# Altium integrated library LT Operational Amplifier.IntLib: 1835 symbols (part 37 of 39)
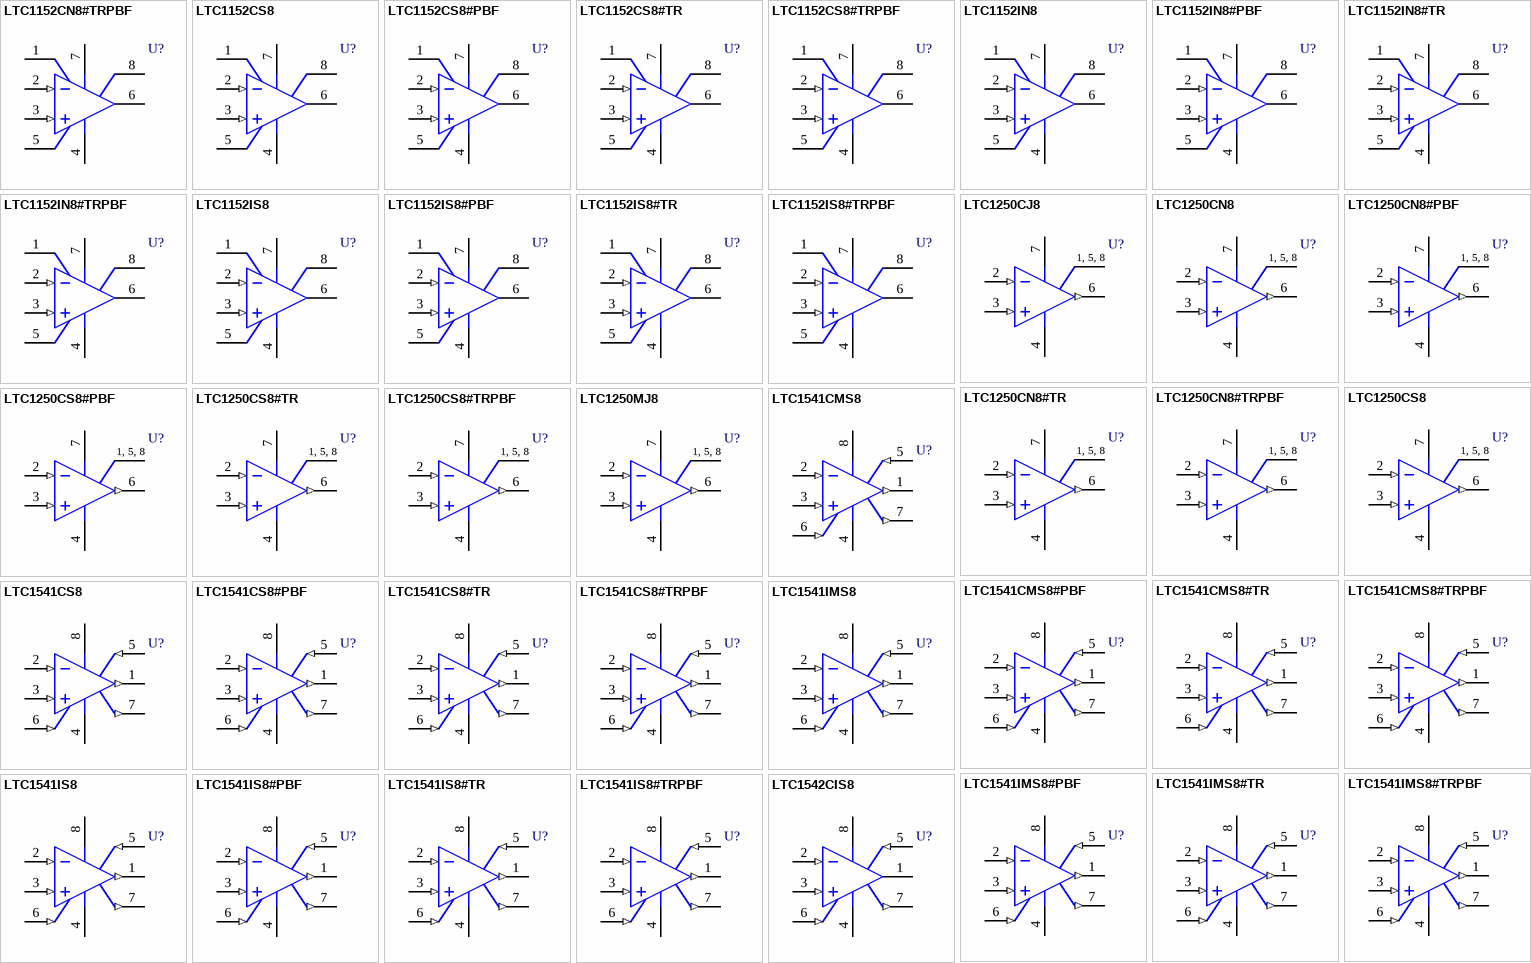
[diagram p123: symbols LTC1152CN8#TRPBF to LTC1542CIS8]

## LTC1152CS8
designator U?
Rail-to-Rail Input Rail-to-Rail Output Zero-Drift Operational Amplifier; Note: 1801; Published: 8-Jun-2000; LatestRevisionDate: 13-Apr-2006; LatestRevisionNote: IPC-7351 Footprint Added.; DatasheetVersion: 1996; PackageReference: S8; Publisher: Altium Limited; PackageDescription: 8-Pin Small Outline Integrated Circuit 1.27 mm Pitch; Code_JEDEC: MS-012-AA; Code_IPC: SOIC127P600-8; ComponentLink1Description: Manufacturer Link; ComponentLink1URL: http://www.linear.com/; ComponentLink2Description: Datasheet; ComponentLink2URL: http://www.linear.com/pc/downloadDocument.do?navId=H0,C1,C1154,C1009,C1027,P1131,D2857
footprint S8_N (SOIC, 8-Leads, Body 4.9x3.9mm, Pitch 1.27mm, IPC Medium Density)
footprint S8_L (SOIC, 8-Leads, Body 4.9x3.9mm, Pitch 1.27mm, IPC High Density)
footprint S8_M (SOIC, 8-Leads, Body 4.9x3.9mm, Pitch 1.27mm, IPC Low Density)
3D model S8 (8-Pin Small Outline Integrated Circuit 1.27 mm Pitch)
simulation model LTC1152 (SUBCKT)
pins: 1 SD, 2 IN- (in), 3 IN+ (in), 4 V- (power), 5 CMPEN, 6 OUT (hiz), 7 V+ (power), 8 CP

## LTC1152CS8#PBF
designator U?
Rail-to-Rail Input Rail-to-Rail Output Zero-Drift Operational Amplifier; Note: 1803; Published: 8-Jun-2000; LatestRevisionDate: 13-Apr-2006; LatestRevisionNote: IPC-7351 Footprint Added.; DatasheetVersion: 1996; PackageReference: S8; Publisher: Altium Limited; PackageDescription: 8-Pin Small Outline Integrated Circuit 1.27 mm Pitch; Code_JEDEC: MS-012-AA; Code_IPC: SOIC127P600-8; ComponentLink1Description: Manufacturer Link; ComponentLink1URL: http://www.linear.com/; ComponentLink2Description: Datasheet; ComponentLink2URL: http://www.linear.com/pc/downloadDocument.do?navId=H0,C1,C1154,C1009,C1027,P1131,D2857
footprint S8_N (SOIC, 8-Leads, Body 4.9x3.9mm, Pitch 1.27mm, IPC Medium Density)
footprint S8_L (SOIC, 8-Leads, Body 4.9x3.9mm, Pitch 1.27mm, IPC High Density)
footprint S8_M (SOIC, 8-Leads, Body 4.9x3.9mm, Pitch 1.27mm, IPC Low Density)
3D model S8 (8-Pin Small Outline Integrated Circuit 1.27 mm Pitch)
simulation model LTC1152 (SUBCKT)
pins: 1 SD, 2 IN- (in), 3 IN+ (in), 4 V- (power), 5 CMPEN, 6 OUT (hiz), 7 V+ (power), 8 CP

## LTC1152CS8#TR
designator U?
Rail-to-Rail Input Rail-to-Rail Output Zero-Drift Operational Amplifier; Note: 1802; Published: 8-Jun-2000; LatestRevisionDate: 13-Apr-2006; LatestRevisionNote: IPC-7351 Footprint Added.; DatasheetVersion: 1996; PackageReference: S8; Publisher: Altium Limited; PackageDescription: 8-Pin Small Outline Integrated Circuit 1.27 mm Pitch; Code_JEDEC: MS-012-AA; Code_IPC: SOIC127P600-8; ComponentLink1Description: Manufacturer Link; ComponentLink1URL: http://www.linear.com/; ComponentLink2Description: Datasheet; ComponentLink2URL: http://www.linear.com/pc/downloadDocument.do?navId=H0,C1,C1154,C1009,C1027,P1131,D2857
footprint S8_N (SOIC, 8-Leads, Body 4.9x3.9mm, Pitch 1.27mm, IPC Medium Density)
footprint S8_L (SOIC, 8-Leads, Body 4.9x3.9mm, Pitch 1.27mm, IPC High Density)
footprint S8_M (SOIC, 8-Leads, Body 4.9x3.9mm, Pitch 1.27mm, IPC Low Density)
3D model S8 (8-Pin Small Outline Integrated Circuit 1.27 mm Pitch)
simulation model LTC1152 (SUBCKT)
pins: 1 SD, 2 IN- (in), 3 IN+ (in), 4 V- (power), 5 CMPEN, 6 OUT (hiz), 7 V+ (power), 8 CP

## LTC1152CS8#TRPBF
designator U?
Rail-to-Rail Input Rail-to-Rail Output Zero-Drift Operational Amplifier; Note: 1804; Published: 8-Jun-2000; LatestRevisionDate: 13-Apr-2006; LatestRevisionNote: IPC-7351 Footprint Added.; DatasheetVersion: 1996; PackageReference: S8; Publisher: Altium Limited; PackageDescription: 8-Pin Small Outline Integrated Circuit 1.27 mm Pitch; Code_JEDEC: MS-012-AA; Code_IPC: SOIC127P600-8; ComponentLink1Description: Manufacturer Link; ComponentLink1URL: http://www.linear.com/; ComponentLink2Description: Datasheet; ComponentLink2URL: http://www.linear.com/pc/downloadDocument.do?navId=H0,C1,C1154,C1009,C1027,P1131,D2857
footprint S8_N (SOIC, 8-Leads, Body 4.9x3.9mm, Pitch 1.27mm, IPC Medium Density)
footprint S8_L (SOIC, 8-Leads, Body 4.9x3.9mm, Pitch 1.27mm, IPC High Density)
footprint S8_M (SOIC, 8-Leads, Body 4.9x3.9mm, Pitch 1.27mm, IPC Low Density)
3D model S8 (8-Pin Small Outline Integrated Circuit 1.27 mm Pitch)
simulation model LTC1152 (SUBCKT)
pins: 1 SD, 2 IN- (in), 3 IN+ (in), 4 V- (power), 5 CMPEN, 6 OUT (hiz), 7 V+ (power), 8 CP

## LTC1152IN8
designator U?
Rail-to-Rail Input Rail-to-Rail Output Zero-Drift Operational Amplifier; Note: 1805; Published: 8-Jun-2000; LatestRevisionDate: 29-May-2009; LatestRevisionNote: Component Body Added.; DatasheetVersion: 1996; PackageVersion: N8 1002; PackageReference: N8; Publisher: Altium Limited; PackageDescription: DIP, Plastic, 8-Pin, Row Spacing 7.62 mm, Pitch 2.54 mm; ComponentLink1Description: Manufacturer Link; ComponentLink1URL: http://www.linear.com/; ComponentLink2Description: Datasheet; ComponentLink2URL: http://www.linear.com/pc/downloadDocument.do?navId=H0,C1,C1154,C1009,C1027,P1131,D2857
footprint N8 (DIP, 8-Leads, Row Spacing 7.62mm, Pitch 2.54mm, Body 9.78x6.48mm)
3D model N8 (DIP, Plastic, 8-Pin, Row Spacing 7.62 mm, Pitch 2.54 mm)
simulation model LTC1152 (SUBCKT)
pins: 1 SD, 2 IN- (in), 3 IN+ (in), 4 V- (power), 5 CMPEN, 6 OUT (hiz), 7 V+ (power), 8 CP

## LTC1152IN8#PBF
designator U?
Rail-to-Rail Input Rail-to-Rail Output Zero-Drift Operational Amplifier; Note: 1807; Published: 8-Jun-2000; LatestRevisionDate: 29-May-2009; LatestRevisionNote: Component Body Added.; DatasheetVersion: 1996; PackageVersion: N8 1002; PackageReference: N8; Publisher: Altium Limited; PackageDescription: DIP, Plastic, 8-Pin, Row Spacing 7.62 mm, Pitch 2.54 mm; ComponentLink1Description: Manufacturer Link; ComponentLink1URL: http://www.linear.com/; ComponentLink2Description: Datasheet; ComponentLink2URL: http://www.linear.com/pc/downloadDocument.do?navId=H0,C1,C1154,C1009,C1027,P1131,D2857
footprint N8 (DIP, 8-Leads, Row Spacing 7.62mm, Pitch 2.54mm, Body 9.78x6.48mm)
3D model N8 (DIP, Plastic, 8-Pin, Row Spacing 7.62 mm, Pitch 2.54 mm)
simulation model LTC1152 (SUBCKT)
pins: 1 SD, 2 IN- (in), 3 IN+ (in), 4 V- (power), 5 CMPEN, 6 OUT (hiz), 7 V+ (power), 8 CP

## LTC1152IN8#TR
designator U?
Rail-to-Rail Input Rail-to-Rail Output Zero-Drift Operational Amplifier; Note: 1806; Published: 8-Jun-2000; LatestRevisionDate: 29-May-2009; LatestRevisionNote: Component Body Added.; DatasheetVersion: 1996; PackageVersion: N8 1002; PackageReference: N8; Publisher: Altium Limited; PackageDescription: DIP, Plastic, 8-Pin, Row Spacing 7.62 mm, Pitch 2.54 mm; ComponentLink1Description: Manufacturer Link; ComponentLink1URL: http://www.linear.com/; ComponentLink2Description: Datasheet; ComponentLink2URL: http://www.linear.com/pc/downloadDocument.do?navId=H0,C1,C1154,C1009,C1027,P1131,D2857
footprint N8 (DIP, 8-Leads, Row Spacing 7.62mm, Pitch 2.54mm, Body 9.78x6.48mm)
3D model N8 (DIP, Plastic, 8-Pin, Row Spacing 7.62 mm, Pitch 2.54 mm)
simulation model LTC1152 (SUBCKT)
pins: 1 SD, 2 IN- (in), 3 IN+ (in), 4 V- (power), 5 CMPEN, 6 OUT (hiz), 7 V+ (power), 8 CP

## LTC1152IN8#TRPBF
designator U?
Rail-to-Rail Input Rail-to-Rail Output Zero-Drift Operational Amplifier; Note: 1808; Published: 8-Jun-2000; LatestRevisionDate: 29-May-2009; LatestRevisionNote: Component Body Added.; DatasheetVersion: 1996; PackageVersion: N8 1002; PackageReference: N8; Publisher: Altium Limited; PackageDescription: DIP, Plastic, 8-Pin, Row Spacing 7.62 mm, Pitch 2.54 mm; ComponentLink1Description: Manufacturer Link; ComponentLink1URL: http://www.linear.com/; ComponentLink2Description: Datasheet; ComponentLink2URL: http://www.linear.com/pc/downloadDocument.do?navId=H0,C1,C1154,C1009,C1027,P1131,D2857
footprint N8 (DIP, 8-Leads, Row Spacing 7.62mm, Pitch 2.54mm, Body 9.78x6.48mm)
3D model N8 (DIP, Plastic, 8-Pin, Row Spacing 7.62 mm, Pitch 2.54 mm)
simulation model LTC1152 (SUBCKT)
pins: 1 SD, 2 IN- (in), 3 IN+ (in), 4 V- (power), 5 CMPEN, 6 OUT (hiz), 7 V+ (power), 8 CP

## LTC1152IS8
designator U?
Rail-to-Rail Input Rail-to-Rail Output Zero-Drift Operational Amplifier; Note: 1809; Published: 8-Jun-2000; LatestRevisionDate: 13-Apr-2006; LatestRevisionNote: IPC-7351 Footprint Added.; DatasheetVersion: 1996; PackageReference: S8; Publisher: Altium Limited; PackageDescription: 8-Pin Small Outline Integrated Circuit 1.27 mm Pitch; Code_JEDEC: MS-012-AA; Code_IPC: SOIC127P600-8; ComponentLink1Description: Manufacturer Link; ComponentLink1URL: http://www.linear.com/; ComponentLink2Description: Datasheet; ComponentLink2URL: http://www.linear.com/pc/downloadDocument.do?navId=H0,C1,C1154,C1009,C1027,P1131,D2857
footprint S8_N (SOIC, 8-Leads, Body 4.9x3.9mm, Pitch 1.27mm, IPC Medium Density)
footprint S8_L (SOIC, 8-Leads, Body 4.9x3.9mm, Pitch 1.27mm, IPC High Density)
footprint S8_M (SOIC, 8-Leads, Body 4.9x3.9mm, Pitch 1.27mm, IPC Low Density)
3D model S8 (8-Pin Small Outline Integrated Circuit 1.27 mm Pitch)
simulation model LTC1152 (SUBCKT)
pins: 1 SD, 2 IN- (in), 3 IN+ (in), 4 V- (power), 5 CMPEN, 6 OUT (hiz), 7 V+ (power), 8 CP

## LTC1152IS8#PBF
designator U?
Rail-to-Rail Input Rail-to-Rail Output Zero-Drift Operational Amplifier; Note: 1811; Published: 8-Jun-2000; LatestRevisionDate: 13-Apr-2006; LatestRevisionNote: IPC-7351 Footprint Added.; DatasheetVersion: 1996; PackageReference: S8; Publisher: Altium Limited; PackageDescription: 8-Pin Small Outline Integrated Circuit 1.27 mm Pitch; Code_JEDEC: MS-012-AA; Code_IPC: SOIC127P600-8; ComponentLink1Description: Manufacturer Link; ComponentLink1URL: http://www.linear.com/; ComponentLink2Description: Datasheet; ComponentLink2URL: http://www.linear.com/pc/downloadDocument.do?navId=H0,C1,C1154,C1009,C1027,P1131,D2857
footprint S8_N (SOIC, 8-Leads, Body 4.9x3.9mm, Pitch 1.27mm, IPC Medium Density)
footprint S8_L (SOIC, 8-Leads, Body 4.9x3.9mm, Pitch 1.27mm, IPC High Density)
footprint S8_M (SOIC, 8-Leads, Body 4.9x3.9mm, Pitch 1.27mm, IPC Low Density)
3D model S8 (8-Pin Small Outline Integrated Circuit 1.27 mm Pitch)
simulation model LTC1152 (SUBCKT)
pins: 1 SD, 2 IN- (in), 3 IN+ (in), 4 V- (power), 5 CMPEN, 6 OUT (hiz), 7 V+ (power), 8 CP

## LTC1152IS8#TR
designator U?
Rail-to-Rail Input Rail-to-Rail Output Zero-Drift Operational Amplifier; Note: 1810; Published: 8-Jun-2000; LatestRevisionDate: 13-Apr-2006; LatestRevisionNote: IPC-7351 Footprint Added.; DatasheetVersion: 1996; PackageReference: S8; Publisher: Altium Limited; PackageDescription: 8-Pin Small Outline Integrated Circuit 1.27 mm Pitch; Code_JEDEC: MS-012-AA; Code_IPC: SOIC127P600-8; ComponentLink1Description: Manufacturer Link; ComponentLink1URL: http://www.linear.com/; ComponentLink2Description: Datasheet; ComponentLink2URL: http://www.linear.com/pc/downloadDocument.do?navId=H0,C1,C1154,C1009,C1027,P1131,D2857
footprint S8_N (SOIC, 8-Leads, Body 4.9x3.9mm, Pitch 1.27mm, IPC Medium Density)
footprint S8_L (SOIC, 8-Leads, Body 4.9x3.9mm, Pitch 1.27mm, IPC High Density)
footprint S8_M (SOIC, 8-Leads, Body 4.9x3.9mm, Pitch 1.27mm, IPC Low Density)
3D model S8 (8-Pin Small Outline Integrated Circuit 1.27 mm Pitch)
simulation model LTC1152 (SUBCKT)
pins: 1 SD, 2 IN- (in), 3 IN+ (in), 4 V- (power), 5 CMPEN, 6 OUT (hiz), 7 V+ (power), 8 CP

## LTC1152IS8#TRPBF
designator U?
Rail-to-Rail Input Rail-to-Rail Output Zero-Drift Operational Amplifier; Note: 1812; Published: 8-Jun-2000; LatestRevisionDate: 13-Apr-2006; LatestRevisionNote: IPC-7351 Footprint Added.; DatasheetVersion: 1996; PackageReference: S8; Publisher: Altium Limited; PackageDescription: 8-Pin Small Outline Integrated Circuit 1.27 mm Pitch; Code_JEDEC: MS-012-AA; Code_IPC: SOIC127P600-8; ComponentLink1Description: Manufacturer Link; ComponentLink1URL: http://www.linear.com/; ComponentLink2Description: Datasheet; ComponentLink2URL: http://www.linear.com/pc/downloadDocument.do?navId=H0,C1,C1154,C1009,C1027,P1131,D2857
footprint S8_N (SOIC, 8-Leads, Body 4.9x3.9mm, Pitch 1.27mm, IPC Medium Density)
footprint S8_L (SOIC, 8-Leads, Body 4.9x3.9mm, Pitch 1.27mm, IPC High Density)
footprint S8_M (SOIC, 8-Leads, Body 4.9x3.9mm, Pitch 1.27mm, IPC Low Density)
3D model S8 (8-Pin Small Outline Integrated Circuit 1.27 mm Pitch)
simulation model LTC1152 (SUBCKT)
pins: 1 SD, 2 IN- (in), 3 IN+ (in), 4 V- (power), 5 CMPEN, 6 OUT (hiz), 7 V+ (power), 8 CP

## LTC1250CJ8
designator U?
Very Low Noise Zero-Drift Bridge Amplifier; Note: Pins 1, 5 and 8 are NC (not internally connected) pins.; Note: 1813; Published: 8-Jun-2000; LatestRevisionDate: 29-May-2009; LatestRevisionNote: Component Body Added.; DatasheetVersion: 1996; PackageVersion: J8 0801; PackageReference: J8; Publisher: Altium Limited; PackageDescription: DIP, Ceramic, 8-Pin, Row Spacing 7.62 mm, Pitch 2.54 mm; ComponentLink1Description: Manufacturer Link; ComponentLink1URL: http://www.linear.com/; ComponentLink2Description: Datasheet; ComponentLink2URL: http://www.linear.com/pc/downloadDocument.do?navId=H0,C1,C1154,C1009,C1027,P1418,D2364
footprint J8 (DIP, 8-Leads, Row Spacing 7.62mm, Pitch 2.54mm, Body 9.89x6.73mm)
3D model J8 (DIP, Ceramic, 8-Pin, Row Spacing 7.62 mm, Pitch 2.54 mm)
simulation model LTC1250 (SUBCKT)
pins: 1 NC, 2 IN- (in), 3 IN+ (in), 4 V- (power), 5 NC, 6 OUT (out), 7 V+ (power), 8 NC
text: 1, 5, 8

## LTC1250CN8
designator U?
Very Low Noise Zero-Drift Bridge Amplifier; Note: Pins 1, 5 and 8 are NC (not internally connected) pins.; Note: 1814; Published: 8-Jun-2000; LatestRevisionDate: 29-May-2009; LatestRevisionNote: Component Body Added.; DatasheetVersion: 1996; PackageVersion: N8 1002; PackageReference: N8; Publisher: Altium Limited; PackageDescription: DIP, Plastic, 8-Pin, Row Spacing 7.62 mm, Pitch 2.54 mm; ComponentLink1Description: Manufacturer Link; ComponentLink1URL: http://www.linear.com/; ComponentLink2Description: Datasheet; ComponentLink2URL: http://www.linear.com/pc/downloadDocument.do?navId=H0,C1,C1154,C1009,C1027,P1418,D2364
footprint N8 (DIP, 8-Leads, Row Spacing 7.62mm, Pitch 2.54mm, Body 9.78x6.48mm)
3D model N8 (DIP, Plastic, 8-Pin, Row Spacing 7.62 mm, Pitch 2.54 mm)
simulation model LTC1250 (SUBCKT)
pins: 1 NC, 2 IN- (in), 3 IN+ (in), 4 V- (power), 5 NC, 6 OUT (out), 7 V+ (power), 8 NC
text: 1, 5, 8

## LTC1250CN8#PBF
designator U?
Very Low Noise Zero-Drift Bridge Amplifier; Note: Pins 1, 5 and 8 are NC (not internally connected) pins.; Note: 1816; Published: 8-Jun-2000; LatestRevisionDate: 29-May-2009; LatestRevisionNote: Component Body Added.; DatasheetVersion: 1996; PackageVersion: N8 1002; PackageReference: N8; Publisher: Altium Limited; PackageDescription: DIP, Plastic, 8-Pin, Row Spacing 7.62 mm, Pitch 2.54 mm; ComponentLink1Description: Manufacturer Link; ComponentLink1URL: http://www.linear.com/; ComponentLink2Description: Datasheet; ComponentLink2URL: http://www.linear.com/pc/downloadDocument.do?navId=H0,C1,C1154,C1009,C1027,P1418,D2364
footprint N8 (DIP, 8-Leads, Row Spacing 7.62mm, Pitch 2.54mm, Body 9.78x6.48mm)
3D model N8 (DIP, Plastic, 8-Pin, Row Spacing 7.62 mm, Pitch 2.54 mm)
simulation model LTC1250 (SUBCKT)
pins: 1 NC, 2 IN- (in), 3 IN+ (in), 4 V- (power), 5 NC, 6 OUT (out), 7 V+ (power), 8 NC
text: 1, 5, 8

## LTC1250CN8#TR
designator U?
Very Low Noise Zero-Drift Bridge Amplifier; Note: Pins 1, 5 and 8 are NC (not internally connected) pins.; Note: 1815; Published: 8-Jun-2000; LatestRevisionDate: 29-May-2009; LatestRevisionNote: Component Body Added.; DatasheetVersion: 1996; PackageVersion: N8 1002; PackageReference: N8; Publisher: Altium Limited; PackageDescription: DIP, Plastic, 8-Pin, Row Spacing 7.62 mm, Pitch 2.54 mm; ComponentLink1Description: Manufacturer Link; ComponentLink1URL: http://www.linear.com/; ComponentLink2Description: Datasheet; ComponentLink2URL: http://www.linear.com/pc/downloadDocument.do?navId=H0,C1,C1154,C1009,C1027,P1418,D2364
footprint N8 (DIP, 8-Leads, Row Spacing 7.62mm, Pitch 2.54mm, Body 9.78x6.48mm)
3D model N8 (DIP, Plastic, 8-Pin, Row Spacing 7.62 mm, Pitch 2.54 mm)
simulation model LTC1250 (SUBCKT)
pins: 1 NC, 2 IN- (in), 3 IN+ (in), 4 V- (power), 5 NC, 6 OUT (out), 7 V+ (power), 8 NC
text: 1, 5, 8

## LTC1250CN8#TRPBF
designator U?
Very Low Noise Zero-Drift Bridge Amplifier; Note: Pins 1, 5 and 8 are NC (not internally connected) pins.; Note: 1817; Published: 8-Jun-2000; LatestRevisionDate: 29-May-2009; LatestRevisionNote: Component Body Added.; DatasheetVersion: 1996; PackageVersion: N8 1002; PackageReference: N8; Publisher: Altium Limited; PackageDescription: DIP, Plastic, 8-Pin, Row Spacing 7.62 mm, Pitch 2.54 mm; ComponentLink1Description: Manufacturer Link; ComponentLink1URL: http://www.linear.com/; ComponentLink2Description: Datasheet; ComponentLink2URL: http://www.linear.com/pc/downloadDocument.do?navId=H0,C1,C1154,C1009,C1027,P1418,D2364
footprint N8 (DIP, 8-Leads, Row Spacing 7.62mm, Pitch 2.54mm, Body 9.78x6.48mm)
3D model N8 (DIP, Plastic, 8-Pin, Row Spacing 7.62 mm, Pitch 2.54 mm)
simulation model LTC1250 (SUBCKT)
pins: 1 NC, 2 IN- (in), 3 IN+ (in), 4 V- (power), 5 NC, 6 OUT (out), 7 V+ (power), 8 NC
text: 1, 5, 8

## LTC1250CS8
designator U?
Very Low Noise Zero-Drift Bridge Amplifier; Note: Pins 1, 5 and 8 are NC (not internally connected) pins.; Note: 1818; Published: 8-Jun-2000; LatestRevisionDate: 13-Apr-2006; LatestRevisionNote: IPC-7351 Footprint Added.; DatasheetVersion: 1996; PackageReference: S8; Publisher: Altium Limited; PackageDescription: 8-Pin Small Outline Integrated Circuit 1.27 mm Pitch; Code_JEDEC: MS-012-AA; Code_IPC: SOIC127P600-8; ComponentLink1Description: Manufacturer Link; ComponentLink1URL: http://www.linear.com/; ComponentLink2Description: Datasheet; ComponentLink2URL: http://www.linear.com/pc/downloadDocument.do?navId=H0,C1,C1154,C1009,C1027,P1418,D2364
footprint S8_N (SOIC, 8-Leads, Body 4.9x3.9mm, Pitch 1.27mm, IPC Medium Density)
footprint S8_L (SOIC, 8-Leads, Body 4.9x3.9mm, Pitch 1.27mm, IPC High Density)
footprint S8_M (SOIC, 8-Leads, Body 4.9x3.9mm, Pitch 1.27mm, IPC Low Density)
3D model S8 (8-Pin Small Outline Integrated Circuit 1.27 mm Pitch)
simulation model LTC1250 (SUBCKT)
pins: 1 NC, 2 IN- (in), 3 IN+ (in), 4 V- (power), 5 NC, 6 OUT (out), 7 V+ (power), 8 NC
text: 1, 5, 8

## LTC1250CS8#PBF
designator U?
Very Low Noise Zero-Drift Bridge Amplifier; Note: Pins 1, 5 and 8 are NC (not internally connected) pins.; Note: 1820; Published: 8-Jun-2000; LatestRevisionDate: 13-Apr-2006; LatestRevisionNote: IPC-7351 Footprint Added.; DatasheetVersion: 1996; PackageReference: S8; Publisher: Altium Limited; PackageDescription: 8-Pin Small Outline Integrated Circuit 1.27 mm Pitch; Code_JEDEC: MS-012-AA; Code_IPC: SOIC127P600-8; ComponentLink1Description: Manufacturer Link; ComponentLink1URL: http://www.linear.com/; ComponentLink2Description: Datasheet; ComponentLink2URL: http://www.linear.com/pc/downloadDocument.do?navId=H0,C1,C1154,C1009,C1027,P1418,D2364
footprint S8_N (SOIC, 8-Leads, Body 4.9x3.9mm, Pitch 1.27mm, IPC Medium Density)
footprint S8_L (SOIC, 8-Leads, Body 4.9x3.9mm, Pitch 1.27mm, IPC High Density)
footprint S8_M (SOIC, 8-Leads, Body 4.9x3.9mm, Pitch 1.27mm, IPC Low Density)
3D model S8 (8-Pin Small Outline Integrated Circuit 1.27 mm Pitch)
simulation model LTC1250 (SUBCKT)
pins: 1 NC, 2 IN- (in), 3 IN+ (in), 4 V- (power), 5 NC, 6 OUT (out), 7 V+ (power), 8 NC
text: 1, 5, 8

## LTC1250CS8#TR
designator U?
Very Low Noise Zero-Drift Bridge Amplifier; Note: Pins 1, 5 and 8 are NC (not internally connected) pins.; Note: 1819; Published: 8-Jun-2000; LatestRevisionDate: 13-Apr-2006; LatestRevisionNote: IPC-7351 Footprint Added.; DatasheetVersion: 1996; PackageReference: S8; Publisher: Altium Limited; PackageDescription: 8-Pin Small Outline Integrated Circuit 1.27 mm Pitch; Code_JEDEC: MS-012-AA; Code_IPC: SOIC127P600-8; ComponentLink1Description: Manufacturer Link; ComponentLink1URL: http://www.linear.com/; ComponentLink2Description: Datasheet; ComponentLink2URL: http://www.linear.com/pc/downloadDocument.do?navId=H0,C1,C1154,C1009,C1027,P1418,D2364
footprint S8_N (SOIC, 8-Leads, Body 4.9x3.9mm, Pitch 1.27mm, IPC Medium Density)
footprint S8_L (SOIC, 8-Leads, Body 4.9x3.9mm, Pitch 1.27mm, IPC High Density)
footprint S8_M (SOIC, 8-Leads, Body 4.9x3.9mm, Pitch 1.27mm, IPC Low Density)
3D model S8 (8-Pin Small Outline Integrated Circuit 1.27 mm Pitch)
simulation model LTC1250 (SUBCKT)
pins: 1 NC, 2 IN- (in), 3 IN+ (in), 4 V- (power), 5 NC, 6 OUT (out), 7 V+ (power), 8 NC
text: 1, 5, 8

## LTC1250CS8#TRPBF
designator U?
Very Low Noise Zero-Drift Bridge Amplifier; Note: Pins 1, 5 and 8 are NC (not internally connected) pins.; Note: 1821; Published: 8-Jun-2000; LatestRevisionDate: 13-Apr-2006; LatestRevisionNote: IPC-7351 Footprint Added.; DatasheetVersion: 1996; PackageReference: S8; Publisher: Altium Limited; PackageDescription: 8-Pin Small Outline Integrated Circuit 1.27 mm Pitch; Code_JEDEC: MS-012-AA; Code_IPC: SOIC127P600-8; ComponentLink1Description: Manufacturer Link; ComponentLink1URL: http://www.linear.com/; ComponentLink2Description: Datasheet; ComponentLink2URL: http://www.linear.com/pc/downloadDocument.do?navId=H0,C1,C1154,C1009,C1027,P1418,D2364
footprint S8_N (SOIC, 8-Leads, Body 4.9x3.9mm, Pitch 1.27mm, IPC Medium Density)
footprint S8_L (SOIC, 8-Leads, Body 4.9x3.9mm, Pitch 1.27mm, IPC High Density)
footprint S8_M (SOIC, 8-Leads, Body 4.9x3.9mm, Pitch 1.27mm, IPC Low Density)
3D model S8 (8-Pin Small Outline Integrated Circuit 1.27 mm Pitch)
simulation model LTC1250 (SUBCKT)
pins: 1 NC, 2 IN- (in), 3 IN+ (in), 4 V- (power), 5 NC, 6 OUT (out), 7 V+ (power), 8 NC
text: 1, 5, 8

## LTC1250MJ8
designator U?
Very Low Noise Zero-Drift Bridge Amplifier; Note: Pins 1, 5 and 8 are NC (not internally connected) pins.; Note: 1822; Published: 8-Jun-2000; LatestRevisionDate: 29-May-2009; LatestRevisionNote: Component Body Added.; DatasheetVersion: 1996; PackageVersion: J8 0801; PackageReference: J8; Publisher: Altium Limited; PackageDescription: DIP, Ceramic, 8-Pin, Row Spacing 7.62 mm, Pitch 2.54 mm; ComponentLink1Description: Manufacturer Link; ComponentLink1URL: http://www.linear.com/; ComponentLink2Description: Datasheet; ComponentLink2URL: http://www.linear.com/pc/downloadDocument.do?navId=H0,C1,C1154,C1009,C1027,P1418,D2364
footprint J8 (DIP, 8-Leads, Row Spacing 7.62mm, Pitch 2.54mm, Body 9.89x6.73mm)
3D model J8 (DIP, Ceramic, 8-Pin, Row Spacing 7.62 mm, Pitch 2.54 mm)
simulation model LTC1250 (SUBCKT)
pins: 1 NC, 2 IN- (in), 3 IN+ (in), 4 V- (power), 5 NC, 6 OUT (out), 7 V+ (power), 8 NC
text: 1, 5, 8

## LTC1541CMS8
designator U?
Micropower Operational Amplifier, Comparator and Reference; Note: If a "singular matrix" error occurs then it would be recommended that the value of RSHUNT be set to a very high resistance (1e+12).; Note: 1823; Published: 8-Jun-2000; LatestRevisionDate: 29-May-2009; LatestRevisionNote: IPC-7351 Footprint Added.; DatasheetVersion: 1996; PackageVersion: revA, 2000; PackageReference: MS8; Publisher: Altium Limited; PackageDescription: 8-Pin Thin Small Outline Package 0.65 mm Pitch; ComponentLink1Description: Manufacturer Link; ComponentLink1URL: http://www.linear.com/; ComponentLink2Description: Datasheet; ComponentLink2URL: http://www.linear.com/pc/downloadDocument.do?navId=H0,C1,C1154,C1009,C1099,P1238,D2734
footprint MS8_N (TSOP, 8-Leads, Body 3x3mm, Pitch 0.65mm, IPC Medium Density)
footprint MS8_L (TSOP, 8-Leads, Body 3x3mm, Pitch 0.65mm, IPC High Density)
footprint MS8_M (TSOP, 8-Leads, Body 3x3mm, Pitch 0.65mm, IPC Low Density)
3D model MS8 (8-Pin Thin Small Outline Package 0.65 mm Pitch)
simulation model LTC1541 (SUBCKT)
pins: 1 OUT (out), 2 IN- (in), 3 IN+ (in), 4 V- (power), 5 COMPIN+ (in), 6 REF (in), 7 COMPOUT (out), 8 V+ (power)

## LTC1541CMS8#PBF
designator U?
Micropower Operational Amplifier, Comparator and Reference; Note: If a "singular matrix" error occurs then it would be recommended that the value of RSHUNT be set to a very high resistance (1e+12).; Note: 1825; Published: 8-Jun-2000; LatestRevisionDate: 29-May-2009; LatestRevisionNote: IPC-7351 Footprint Added.; DatasheetVersion: 1996; PackageVersion: revA, 2000; PackageReference: MS8; Publisher: Altium Limited; PackageDescription: 8-Pin Thin Small Outline Package 0.65 mm Pitch; ComponentLink1Description: Manufacturer Link; ComponentLink1URL: http://www.linear.com/; ComponentLink2Description: Datasheet; ComponentLink2URL: http://www.linear.com/pc/downloadDocument.do?navId=H0,C1,C1154,C1009,C1099,P1238,D2734
footprint MS8_N (TSOP, 8-Leads, Body 3x3mm, Pitch 0.65mm, IPC Medium Density)
footprint MS8_L (TSOP, 8-Leads, Body 3x3mm, Pitch 0.65mm, IPC High Density)
footprint MS8_M (TSOP, 8-Leads, Body 3x3mm, Pitch 0.65mm, IPC Low Density)
3D model MS8 (8-Pin Thin Small Outline Package 0.65 mm Pitch)
simulation model LTC1541 (SUBCKT)
pins: 1 OUT (out), 2 IN- (in), 3 IN+ (in), 4 V- (power), 5 COMPIN+ (in), 6 REF (in), 7 COMPOUT (out), 8 V+ (power)

## LTC1541CMS8#TR
designator U?
Micropower Operational Amplifier, Comparator and Reference; Note: If a "singular matrix" error occurs then it would be recommended that the value of RSHUNT be set to a very high resistance (1e+12).; Note: 1824; Published: 8-Jun-2000; LatestRevisionDate: 29-May-2009; LatestRevisionNote: IPC-7351 Footprint Added.; DatasheetVersion: 1996; PackageVersion: revA, 2000; PackageReference: MS8; Publisher: Altium Limited; PackageDescription: 8-Pin Thin Small Outline Package 0.65 mm Pitch; ComponentLink1Description: Manufacturer Link; ComponentLink1URL: http://www.linear.com/; ComponentLink2Description: Datasheet; ComponentLink2URL: http://www.linear.com/pc/downloadDocument.do?navId=H0,C1,C1154,C1009,C1099,P1238,D2734
footprint MS8_N (TSOP, 8-Leads, Body 3x3mm, Pitch 0.65mm, IPC Medium Density)
footprint MS8_L (TSOP, 8-Leads, Body 3x3mm, Pitch 0.65mm, IPC High Density)
footprint MS8_M (TSOP, 8-Leads, Body 3x3mm, Pitch 0.65mm, IPC Low Density)
3D model MS8 (8-Pin Thin Small Outline Package 0.65 mm Pitch)
simulation model LTC1541 (SUBCKT)
pins: 1 OUT (out), 2 IN- (in), 3 IN+ (in), 4 V- (power), 5 COMPIN+ (in), 6 REF (in), 7 COMPOUT (out), 8 V+ (power)

## LTC1541CMS8#TRPBF
designator U?
Micropower Operational Amplifier, Comparator and Reference; Note: If a "singular matrix" error occurs then it would be recommended that the value of RSHUNT be set to a very high resistance (1e+12).; Note: 1826; Published: 8-Jun-2000; LatestRevisionDate: 29-May-2009; LatestRevisionNote: IPC-7351 Footprint Added.; DatasheetVersion: 1996; PackageVersion: revA, 2000; PackageReference: MS8; Publisher: Altium Limited; PackageDescription: 8-Pin Thin Small Outline Package 0.65 mm Pitch; ComponentLink1Description: Manufacturer Link; ComponentLink1URL: http://www.linear.com/; ComponentLink2Description: Datasheet; ComponentLink2URL: http://www.linear.com/pc/downloadDocument.do?navId=H0,C1,C1154,C1009,C1099,P1238,D2734
footprint MS8_N (TSOP, 8-Leads, Body 3x3mm, Pitch 0.65mm, IPC Medium Density)
footprint MS8_L (TSOP, 8-Leads, Body 3x3mm, Pitch 0.65mm, IPC High Density)
footprint MS8_M (TSOP, 8-Leads, Body 3x3mm, Pitch 0.65mm, IPC Low Density)
3D model MS8 (8-Pin Thin Small Outline Package 0.65 mm Pitch)
simulation model LTC1541 (SUBCKT)
pins: 1 OUT (out), 2 IN- (in), 3 IN+ (in), 4 V- (power), 5 COMPIN+ (in), 6 REF (in), 7 COMPOUT (out), 8 V+ (power)

## LTC1541CS8
designator U?
Micropower Operational Amplifier, Comparator and Reference; Note: If a "singular matrix" error occurs then it would be recommended that the value of RSHUNT be set to a very high resistance (1e+12).; Note: 1831; Published: 8-Jun-2000; LatestRevisionDate: 13-Apr-2006; LatestRevisionNote: IPC-7351 Footprint Added.; DatasheetVersion: 1996; PackageReference: S8; Publisher: Altium Limited; PackageDescription: 8-Pin Small Outline Integrated Circuit 1.27 mm Pitch; Code_JEDEC: MS-012-AA; Code_IPC: SOIC127P600-8; ComponentLink1Description: Manufacturer Link; ComponentLink1URL: http://www.linear.com/; ComponentLink2Description: Datasheet; ComponentLink2URL: http://www.linear.com/pc/downloadDocument.do?navId=H0,C1,C1154,C1009,C1099,P1238,D2734
footprint S8_N (SOIC, 8-Leads, Body 4.9x3.9mm, Pitch 1.27mm, IPC Medium Density)
footprint S8_L (SOIC, 8-Leads, Body 4.9x3.9mm, Pitch 1.27mm, IPC High Density)
footprint S8_M (SOIC, 8-Leads, Body 4.9x3.9mm, Pitch 1.27mm, IPC Low Density)
3D model S8 (8-Pin Small Outline Integrated Circuit 1.27 mm Pitch)
simulation model LTC1541 (SUBCKT)
pins: 1 OUT (out), 2 IN- (in), 3 IN+ (in), 4 V- (power), 5 COMPIN+ (in), 6 REF (in), 7 COMPOUT (out), 8 V+ (power)

## LTC1541CS8#PBF
designator U?
Micropower Operational Amplifier, Comparator and Reference; Note: If a "singular matrix" error occurs then it would be recommended that the value of RSHUNT be set to a very high resistance (1e+12).; Note: 1833; Published: 8-Jun-2000; LatestRevisionDate: 13-Apr-2006; LatestRevisionNote: IPC-7351 Footprint Added.; DatasheetVersion: 1996; PackageReference: S8; Publisher: Altium Limited; PackageDescription: 8-Pin Small Outline Integrated Circuit 1.27 mm Pitch; Code_JEDEC: MS-012-AA; Code_IPC: SOIC127P600-8; ComponentLink1Description: Manufacturer Link; ComponentLink1URL: http://www.linear.com/; ComponentLink2Description: Datasheet; ComponentLink2URL: http://www.linear.com/pc/downloadDocument.do?navId=H0,C1,C1154,C1009,C1099,P1238,D2734
footprint S8_N (SOIC, 8-Leads, Body 4.9x3.9mm, Pitch 1.27mm, IPC Medium Density)
footprint S8_L (SOIC, 8-Leads, Body 4.9x3.9mm, Pitch 1.27mm, IPC High Density)
footprint S8_M (SOIC, 8-Leads, Body 4.9x3.9mm, Pitch 1.27mm, IPC Low Density)
3D model S8 (8-Pin Small Outline Integrated Circuit 1.27 mm Pitch)
simulation model LTC1541 (SUBCKT)
pins: 1 OUT (out), 2 IN- (in), 3 IN+ (in), 4 V- (power), 5 COMPIN+ (in), 6 REF (in), 7 COMPOUT (out), 8 V+ (power)

## LTC1541CS8#TR
designator U?
Micropower Operational Amplifier, Comparator and Reference; Note: If a "singular matrix" error occurs then it would be recommended that the value of RSHUNT be set to a very high resistance (1e+12).; Note: 1832; Published: 8-Jun-2000; LatestRevisionDate: 13-Apr-2006; LatestRevisionNote: IPC-7351 Footprint Added.; DatasheetVersion: 1996; PackageReference: S8; Publisher: Altium Limited; PackageDescription: 8-Pin Small Outline Integrated Circuit 1.27 mm Pitch; Code_JEDEC: MS-012-AA; Code_IPC: SOIC127P600-8; ComponentLink1Description: Manufacturer Link; ComponentLink1URL: http://www.linear.com/; ComponentLink2Description: Datasheet; ComponentLink2URL: http://www.linear.com/pc/downloadDocument.do?navId=H0,C1,C1154,C1009,C1099,P1238,D2734
footprint S8_N (SOIC, 8-Leads, Body 4.9x3.9mm, Pitch 1.27mm, IPC Medium Density)
footprint S8_L (SOIC, 8-Leads, Body 4.9x3.9mm, Pitch 1.27mm, IPC High Density)
footprint S8_M (SOIC, 8-Leads, Body 4.9x3.9mm, Pitch 1.27mm, IPC Low Density)
3D model S8 (8-Pin Small Outline Integrated Circuit 1.27 mm Pitch)
simulation model LTC1541 (SUBCKT)
pins: 1 OUT (out), 2 IN- (in), 3 IN+ (in), 4 V- (power), 5 COMPIN+ (in), 6 REF (in), 7 COMPOUT (out), 8 V+ (power)

## LTC1541CS8#TRPBF
designator U?
Micropower Operational Amplifier, Comparator and Reference; Note: If a "singular matrix" error occurs then it would be recommended that the value of RSHUNT be set to a very high resistance (1e+12).; Note: 1834; Published: 8-Jun-2000; LatestRevisionDate: 13-Apr-2006; LatestRevisionNote: IPC-7351 Footprint Added.; DatasheetVersion: 1996; PackageReference: S8; Publisher: Altium Limited; PackageDescription: 8-Pin Small Outline Integrated Circuit 1.27 mm Pitch; Code_JEDEC: MS-012-AA; Code_IPC: SOIC127P600-8; ComponentLink1Description: Manufacturer Link; ComponentLink1URL: http://www.linear.com/; ComponentLink2Description: Datasheet; ComponentLink2URL: http://www.linear.com/pc/downloadDocument.do?navId=H0,C1,C1154,C1009,C1099,P1238,D2734
footprint S8_N (SOIC, 8-Leads, Body 4.9x3.9mm, Pitch 1.27mm, IPC Medium Density)
footprint S8_L (SOIC, 8-Leads, Body 4.9x3.9mm, Pitch 1.27mm, IPC High Density)
footprint S8_M (SOIC, 8-Leads, Body 4.9x3.9mm, Pitch 1.27mm, IPC Low Density)
3D model S8 (8-Pin Small Outline Integrated Circuit 1.27 mm Pitch)
simulation model LTC1541 (SUBCKT)
pins: 1 OUT (out), 2 IN- (in), 3 IN+ (in), 4 V- (power), 5 COMPIN+ (in), 6 REF (in), 7 COMPOUT (out), 8 V+ (power)

## LTC1541IMS8
designator U?
Micropower Operational Amplifier, Comparator and Reference; Note: If a "singular matrix" error occurs then it would be recommended that the value of RSHUNT be set to a very high resistance (1e+12).; Note: 1827; Published: 8-Jun-2000; LatestRevisionDate: 29-May-2009; LatestRevisionNote: IPC-7351 Footprint Added.; DatasheetVersion: 1996; PackageVersion: revA, 2000; PackageReference: MS8; Publisher: Altium Limited; PackageDescription: 8-Pin Thin Small Outline Package 0.65 mm Pitch; ComponentLink1Description: Manufacturer Link; ComponentLink1URL: http://www.linear.com/; ComponentLink2Description: Datasheet; ComponentLink2URL: http://www.linear.com/pc/downloadDocument.do?navId=H0,C1,C1154,C1009,C1099,P1238,D2734
footprint MS8_N (TSOP, 8-Leads, Body 3x3mm, Pitch 0.65mm, IPC Medium Density)
footprint MS8_L (TSOP, 8-Leads, Body 3x3mm, Pitch 0.65mm, IPC High Density)
footprint MS8_M (TSOP, 8-Leads, Body 3x3mm, Pitch 0.65mm, IPC Low Density)
3D model MS8 (8-Pin Thin Small Outline Package 0.65 mm Pitch)
simulation model LTC1541 (SUBCKT)
pins: 1 OUT (out), 2 IN- (in), 3 IN+ (in), 4 V- (power), 5 COMPIN+ (in), 6 REF (in), 7 COMPOUT (out), 8 V+ (power)

## LTC1541IMS8#PBF
designator U?
Micropower Operational Amplifier, Comparator and Reference; Note: If a "singular matrix" error occurs then it would be recommended that the value of RSHUNT be set to a very high resistance (1e+12).; Note: 1829; Published: 8-Jun-2000; LatestRevisionDate: 29-May-2009; LatestRevisionNote: IPC-7351 Footprint Added.; DatasheetVersion: 1996; PackageVersion: revA, 2000; PackageReference: MS8; Publisher: Altium Limited; PackageDescription: 8-Pin Thin Small Outline Package 0.65 mm Pitch; ComponentLink1Description: Manufacturer Link; ComponentLink1URL: http://www.linear.com/; ComponentLink2Description: Datasheet; ComponentLink2URL: http://www.linear.com/pc/downloadDocument.do?navId=H0,C1,C1154,C1009,C1099,P1238,D2734
footprint MS8_N (TSOP, 8-Leads, Body 3x3mm, Pitch 0.65mm, IPC Medium Density)
footprint MS8_L (TSOP, 8-Leads, Body 3x3mm, Pitch 0.65mm, IPC High Density)
footprint MS8_M (TSOP, 8-Leads, Body 3x3mm, Pitch 0.65mm, IPC Low Density)
3D model MS8 (8-Pin Thin Small Outline Package 0.65 mm Pitch)
simulation model LTC1541 (SUBCKT)
pins: 1 OUT (out), 2 IN- (in), 3 IN+ (in), 4 V- (power), 5 COMPIN+ (in), 6 REF (in), 7 COMPOUT (out), 8 V+ (power)

## LTC1541IMS8#TR
designator U?
Micropower Operational Amplifier, Comparator and Reference; Note: If a "singular matrix" error occurs then it would be recommended that the value of RSHUNT be set to a very high resistance (1e+12).; Note: 1828; Published: 8-Jun-2000; LatestRevisionDate: 29-May-2009; LatestRevisionNote: IPC-7351 Footprint Added.; DatasheetVersion: 1996; PackageVersion: revA, 2000; PackageReference: MS8; Publisher: Altium Limited; PackageDescription: 8-Pin Thin Small Outline Package 0.65 mm Pitch; ComponentLink1Description: Manufacturer Link; ComponentLink1URL: http://www.linear.com/; ComponentLink2Description: Datasheet; ComponentLink2URL: http://www.linear.com/pc/downloadDocument.do?navId=H0,C1,C1154,C1009,C1099,P1238,D2734
footprint MS8_N (TSOP, 8-Leads, Body 3x3mm, Pitch 0.65mm, IPC Medium Density)
footprint MS8_L (TSOP, 8-Leads, Body 3x3mm, Pitch 0.65mm, IPC High Density)
footprint MS8_M (TSOP, 8-Leads, Body 3x3mm, Pitch 0.65mm, IPC Low Density)
3D model MS8 (8-Pin Thin Small Outline Package 0.65 mm Pitch)
simulation model LTC1541 (SUBCKT)
pins: 1 OUT (out), 2 IN- (in), 3 IN+ (in), 4 V- (power), 5 COMPIN+ (in), 6 REF (in), 7 COMPOUT (out), 8 V+ (power)

## LTC1541IMS8#TRPBF
designator U?
Micropower Operational Amplifier, Comparator and Reference; Note: If a "singular matrix" error occurs then it would be recommended that the value of RSHUNT be set to a very high resistance (1e+12).; Note: 1830; Published: 8-Jun-2000; LatestRevisionDate: 29-May-2009; LatestRevisionNote: IPC-7351 Footprint Added.; DatasheetVersion: 1996; PackageVersion: revA, 2000; PackageReference: MS8; Publisher: Altium Limited; PackageDescription: 8-Pin Thin Small Outline Package 0.65 mm Pitch; ComponentLink1Description: Manufacturer Link; ComponentLink1URL: http://www.linear.com/; ComponentLink2Description: Datasheet; ComponentLink2URL: http://www.linear.com/pc/downloadDocument.do?navId=H0,C1,C1154,C1009,C1099,P1238,D2734
footprint MS8_N (TSOP, 8-Leads, Body 3x3mm, Pitch 0.65mm, IPC Medium Density)
footprint MS8_L (TSOP, 8-Leads, Body 3x3mm, Pitch 0.65mm, IPC High Density)
footprint MS8_M (TSOP, 8-Leads, Body 3x3mm, Pitch 0.65mm, IPC Low Density)
3D model MS8 (8-Pin Thin Small Outline Package 0.65 mm Pitch)
simulation model LTC1541 (SUBCKT)
pins: 1 OUT (out), 2 IN- (in), 3 IN+ (in), 4 V- (power), 5 COMPIN+ (in), 6 REF (in), 7 COMPOUT (out), 8 V+ (power)

## LTC1541IS8
designator U?
Micropower Operational Amplifier, Comparator and Reference; Note: If a "singular matrix" error occurs then it would be recommended that the value of RSHUNT be set to a very high resistance (1e+12).; Note: 1835; Published: 8-Jun-2000; LatestRevisionDate: 13-Apr-2006; LatestRevisionNote: IPC-7351 Footprint Added.; DatasheetVersion: 1996; PackageReference: S8; Publisher: Altium Limited; PackageDescription: 8-Pin Small Outline Integrated Circuit 1.27 mm Pitch; Code_JEDEC: MS-012-AA; Code_IPC: SOIC127P600-8; ComponentLink1Description: Manufacturer Link; ComponentLink1URL: http://www.linear.com/; ComponentLink2Description: Datasheet; ComponentLink2URL: http://www.linear.com/pc/downloadDocument.do?navId=H0,C1,C1154,C1009,C1099,P1238,D2734
footprint S8_N (SOIC, 8-Leads, Body 4.9x3.9mm, Pitch 1.27mm, IPC Medium Density)
footprint S8_L (SOIC, 8-Leads, Body 4.9x3.9mm, Pitch 1.27mm, IPC High Density)
footprint S8_M (SOIC, 8-Leads, Body 4.9x3.9mm, Pitch 1.27mm, IPC Low Density)
3D model S8 (8-Pin Small Outline Integrated Circuit 1.27 mm Pitch)
simulation model LTC1541 (SUBCKT)
pins: 1 OUT (out), 2 IN- (in), 3 IN+ (in), 4 V- (power), 5 COMPIN+ (in), 6 REF (in), 7 COMPOUT (out), 8 V+ (power)

## LTC1541IS8#PBF
designator U?
Micropower Operational Amplifier, Comparator and Reference; Note: If a "singular matrix" error occurs then it would be recommended that the value of RSHUNT be set to a very high resistance (1e+12).; Note: 1837; Published: 8-Jun-2000; LatestRevisionDate: 13-Apr-2006; LatestRevisionNote: IPC-7351 Footprint Added.; DatasheetVersion: 1996; PackageReference: S8; Publisher: Altium Limited; PackageDescription: 8-Pin Small Outline Integrated Circuit 1.27 mm Pitch; Code_JEDEC: MS-012-AA; Code_IPC: SOIC127P600-8; ComponentLink1Description: Manufacturer Link; ComponentLink1URL: http://www.linear.com/; ComponentLink2Description: Datasheet; ComponentLink2URL: http://www.linear.com/pc/downloadDocument.do?navId=H0,C1,C1154,C1009,C1099,P1238,D2734
footprint S8_N (SOIC, 8-Leads, Body 4.9x3.9mm, Pitch 1.27mm, IPC Medium Density)
footprint S8_L (SOIC, 8-Leads, Body 4.9x3.9mm, Pitch 1.27mm, IPC High Density)
footprint S8_M (SOIC, 8-Leads, Body 4.9x3.9mm, Pitch 1.27mm, IPC Low Density)
3D model S8 (8-Pin Small Outline Integrated Circuit 1.27 mm Pitch)
simulation model LTC1541 (SUBCKT)
pins: 1 OUT (out), 2 IN- (in), 3 IN+ (in), 4 V- (power), 5 COMPIN+ (in), 6 REF (in), 7 COMPOUT (out), 8 V+ (power)

## LTC1541IS8#TR
designator U?
Micropower Operational Amplifier, Comparator and Reference; Note: If a "singular matrix" error occurs then it would be recommended that the value of RSHUNT be set to a very high resistance (1e+12).; Note: 1836; Published: 8-Jun-2000; LatestRevisionDate: 13-Apr-2006; LatestRevisionNote: IPC-7351 Footprint Added.; DatasheetVersion: 1996; PackageReference: S8; Publisher: Altium Limited; PackageDescription: 8-Pin Small Outline Integrated Circuit 1.27 mm Pitch; Code_JEDEC: MS-012-AA; Code_IPC: SOIC127P600-8; ComponentLink1Description: Manufacturer Link; ComponentLink1URL: http://www.linear.com/; ComponentLink2Description: Datasheet; ComponentLink2URL: http://www.linear.com/pc/downloadDocument.do?navId=H0,C1,C1154,C1009,C1099,P1238,D2734
footprint S8_N (SOIC, 8-Leads, Body 4.9x3.9mm, Pitch 1.27mm, IPC Medium Density)
footprint S8_L (SOIC, 8-Leads, Body 4.9x3.9mm, Pitch 1.27mm, IPC High Density)
footprint S8_M (SOIC, 8-Leads, Body 4.9x3.9mm, Pitch 1.27mm, IPC Low Density)
3D model S8 (8-Pin Small Outline Integrated Circuit 1.27 mm Pitch)
simulation model LTC1541 (SUBCKT)
pins: 1 OUT (out), 2 IN- (in), 3 IN+ (in), 4 V- (power), 5 COMPIN+ (in), 6 REF (in), 7 COMPOUT (out), 8 V+ (power)

## LTC1541IS8#TRPBF
designator U?
Micropower Operational Amplifier, Comparator and Reference; Note: If a "singular matrix" error occurs then it would be recommended that the value of RSHUNT be set to a very high resistance (1e+12).; Note: 1838; Published: 8-Jun-2000; LatestRevisionDate: 13-Apr-2006; LatestRevisionNote: IPC-7351 Footprint Added.; DatasheetVersion: 1996; PackageReference: S8; Publisher: Altium Limited; PackageDescription: 8-Pin Small Outline Integrated Circuit 1.27 mm Pitch; Code_JEDEC: MS-012-AA; Code_IPC: SOIC127P600-8; ComponentLink1Description: Manufacturer Link; ComponentLink1URL: http://www.linear.com/; ComponentLink2Description: Datasheet; ComponentLink2URL: http://www.linear.com/pc/downloadDocument.do?navId=H0,C1,C1154,C1009,C1099,P1238,D2734
footprint S8_N (SOIC, 8-Leads, Body 4.9x3.9mm, Pitch 1.27mm, IPC Medium Density)
footprint S8_L (SOIC, 8-Leads, Body 4.9x3.9mm, Pitch 1.27mm, IPC High Density)
footprint S8_M (SOIC, 8-Leads, Body 4.9x3.9mm, Pitch 1.27mm, IPC Low Density)
3D model S8 (8-Pin Small Outline Integrated Circuit 1.27 mm Pitch)
simulation model LTC1541 (SUBCKT)
pins: 1 OUT (out), 2 IN- (in), 3 IN+ (in), 4 V- (power), 5 COMPIN+ (in), 6 REF (in), 7 COMPOUT (out), 8 V+ (power)

## LTC1542CIS8
designator U?
Micropower Operational Amplifier, Comparator and Reference; Note: 1843; Published: 8-Jun-2000; LatestRevisionDate: 29-May-2009; LatestRevisionNote: IPC-7351 Footprint Added.; DatasheetVersion: 1996; PackageVersion: revA, 2000; PackageReference: MS8; Publisher: Altium Limited; PackageDescription: 8-Pin Thin Small Outline Package 0.65 mm Pitch; ComponentLink1Description: Manufacturer Link; ComponentLink1URL: http://www.linear.com/; ComponentLink2Description: Datasheet; ComponentLink2URL: http://www.linear.com/pc/downloadDocument.do?navId=H0,C1,C1154,C1009,C1099,P1238,D2734
footprint MS8_N (TSOP, 8-Leads, Body 3x3mm, Pitch 0.65mm, IPC Medium Density)
footprint MS8_L (TSOP, 8-Leads, Body 3x3mm, Pitch 0.65mm, IPC High Density)
footprint MS8_M (TSOP, 8-Leads, Body 3x3mm, Pitch 0.65mm, IPC Low Density)
3D model MS8 (8-Pin Thin Small Outline Package 0.65 mm Pitch)
simulation model LTC1542 (SUBCKT)
pins: 1 OUT (hiz), 2 IN- (in), 3 IN+ (in), 4 V- (power), 5 COMP IN+ (in), 6 COMP IN- (in), 7 COMP OUT (out), 8 V+ (power)

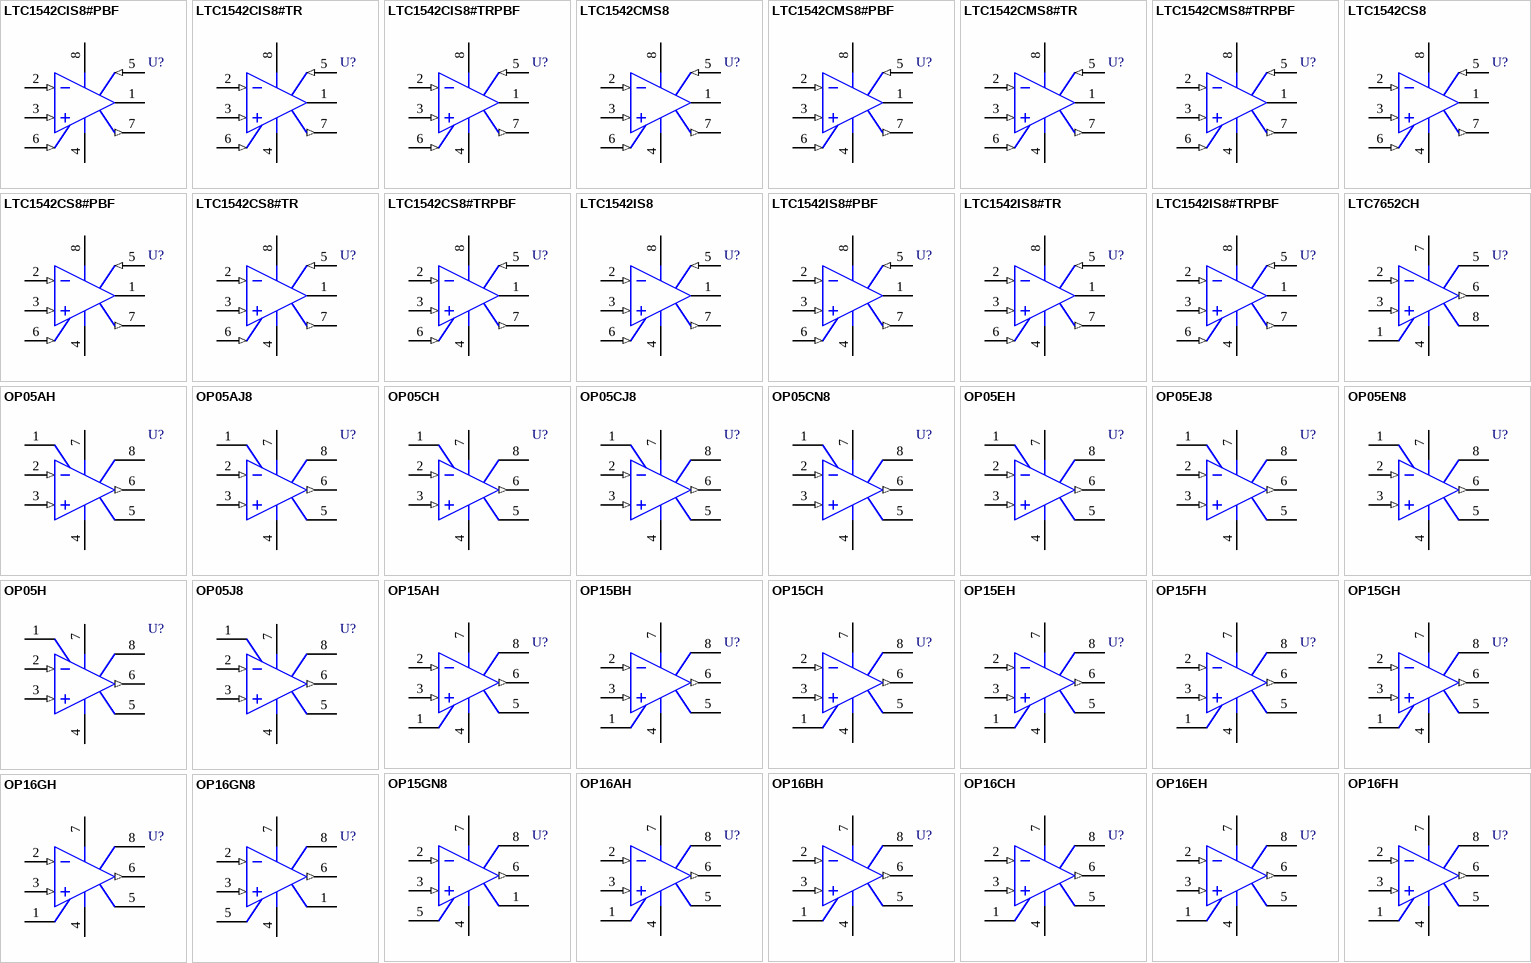
[diagram p85: symbols LTC1542CIS8#PBF to OP16GN8]

## LTC1542CIS8#PBF
designator U?
Micropower Operational Amplifier, Comparator and Reference; Note: 1845; Published: 8-Jun-2000; LatestRevisionDate: 29-May-2009; LatestRevisionNote: IPC-7351 Footprint Added.; DatasheetVersion: 1996; PackageVersion: revA, 2000; PackageReference: MS8; Publisher: Altium Limited; PackageDescription: 8-Pin Thin Small Outline Package 0.65 mm Pitch; ComponentLink1Description: Manufacturer Link; ComponentLink1URL: http://www.linear.com/; ComponentLink2Description: Datasheet; ComponentLink2URL: http://www.linear.com/pc/downloadDocument.do?navId=H0,C1,C1154,C1009,C1099,P1238,D2734
footprint MS8_N (TSOP, 8-Leads, Body 3x3mm, Pitch 0.65mm, IPC Medium Density)
footprint MS8_L (TSOP, 8-Leads, Body 3x3mm, Pitch 0.65mm, IPC High Density)
footprint MS8_M (TSOP, 8-Leads, Body 3x3mm, Pitch 0.65mm, IPC Low Density)
3D model MS8 (8-Pin Thin Small Outline Package 0.65 mm Pitch)
simulation model LTC1542 (SUBCKT)
pins: 1 OUT (hiz), 2 IN- (in), 3 IN+ (in), 4 V- (power), 5 COMP IN+ (in), 6 COMP IN- (in), 7 COMP OUT (out), 8 V+ (power)

## LTC1542CIS8#TR
designator U?
Micropower Operational Amplifier, Comparator and Reference; Note: 1844; Published: 8-Jun-2000; LatestRevisionDate: 29-May-2009; LatestRevisionNote: IPC-7351 Footprint Added.; DatasheetVersion: 1996; PackageVersion: revA, 2000; PackageReference: MS8; Publisher: Altium Limited; PackageDescription: 8-Pin Thin Small Outline Package 0.65 mm Pitch; ComponentLink1Description: Manufacturer Link; ComponentLink1URL: http://www.linear.com/; ComponentLink2Description: Datasheet; ComponentLink2URL: http://www.linear.com/pc/downloadDocument.do?navId=H0,C1,C1154,C1009,C1099,P1238,D2734
footprint MS8_N (TSOP, 8-Leads, Body 3x3mm, Pitch 0.65mm, IPC Medium Density)
footprint MS8_L (TSOP, 8-Leads, Body 3x3mm, Pitch 0.65mm, IPC High Density)
footprint MS8_M (TSOP, 8-Leads, Body 3x3mm, Pitch 0.65mm, IPC Low Density)
3D model MS8 (8-Pin Thin Small Outline Package 0.65 mm Pitch)
simulation model LTC1542 (SUBCKT)
pins: 1 OUT (hiz), 2 IN- (in), 3 IN+ (in), 4 V- (power), 5 COMP IN+ (in), 6 COMP IN- (in), 7 COMP OUT (out), 8 V+ (power)

## LTC1542CIS8#TRPBF
designator U?
Micropower Operational Amplifier, Comparator and Reference; Note: 1846; Published: 8-Jun-2000; LatestRevisionDate: 29-May-2009; LatestRevisionNote: IPC-7351 Footprint Added.; DatasheetVersion: 1996; PackageVersion: revA, 2000; PackageReference: MS8; Publisher: Altium Limited; PackageDescription: 8-Pin Thin Small Outline Package 0.65 mm Pitch; ComponentLink1Description: Manufacturer Link; ComponentLink1URL: http://www.linear.com/; ComponentLink2Description: Datasheet; ComponentLink2URL: http://www.linear.com/pc/downloadDocument.do?navId=H0,C1,C1154,C1009,C1099,P1238,D2734
footprint MS8_N (TSOP, 8-Leads, Body 3x3mm, Pitch 0.65mm, IPC Medium Density)
footprint MS8_L (TSOP, 8-Leads, Body 3x3mm, Pitch 0.65mm, IPC High Density)
footprint MS8_M (TSOP, 8-Leads, Body 3x3mm, Pitch 0.65mm, IPC Low Density)
3D model MS8 (8-Pin Thin Small Outline Package 0.65 mm Pitch)
simulation model LTC1542 (SUBCKT)
pins: 1 OUT (hiz), 2 IN- (in), 3 IN+ (in), 4 V- (power), 5 COMP IN+ (in), 6 COMP IN- (in), 7 COMP OUT (out), 8 V+ (power)

## LTC1542CMS8
designator U?
Micropower Operational Amplifier, Comparator and Reference; Note: 1839; Published: 8-Jun-2000; LatestRevisionDate: 29-May-2009; LatestRevisionNote: IPC-7351 Footprint Added.; DatasheetVersion: 1996; PackageVersion: revA, 2000; PackageReference: MS8; Publisher: Altium Limited; PackageDescription: 8-Pin Thin Small Outline Package 0.65 mm Pitch; ComponentLink1Description: Manufacturer Link; ComponentLink1URL: http://www.linear.com/; ComponentLink2Description: Datasheet; ComponentLink2URL: http://www.linear.com/pc/downloadDocument.do?navId=H0,C1,C1154,C1009,C1099,P1238,D2734
footprint MS8_N (TSOP, 8-Leads, Body 3x3mm, Pitch 0.65mm, IPC Medium Density)
footprint MS8_L (TSOP, 8-Leads, Body 3x3mm, Pitch 0.65mm, IPC High Density)
footprint MS8_M (TSOP, 8-Leads, Body 3x3mm, Pitch 0.65mm, IPC Low Density)
3D model MS8 (8-Pin Thin Small Outline Package 0.65 mm Pitch)
simulation model LTC1542 (SUBCKT)
pins: 1 OUT (hiz), 2 IN- (in), 3 IN+ (in), 4 V- (power), 5 COMP IN+ (in), 6 COMP IN- (in), 7 COMP OUT (out), 8 V+ (power)

## LTC1542CMS8#PBF
designator U?
Micropower Operational Amplifier, Comparator and Reference; Note: 1841; Published: 8-Jun-2000; LatestRevisionDate: 29-May-2009; LatestRevisionNote: IPC-7351 Footprint Added.; DatasheetVersion: 1996; PackageVersion: revA, 2000; PackageReference: MS8; Publisher: Altium Limited; PackageDescription: 8-Pin Thin Small Outline Package 0.65 mm Pitch; ComponentLink1Description: Manufacturer Link; ComponentLink1URL: http://www.linear.com/; ComponentLink2Description: Datasheet; ComponentLink2URL: http://www.linear.com/pc/downloadDocument.do?navId=H0,C1,C1154,C1009,C1099,P1238,D2734
footprint MS8_N (TSOP, 8-Leads, Body 3x3mm, Pitch 0.65mm, IPC Medium Density)
footprint MS8_L (TSOP, 8-Leads, Body 3x3mm, Pitch 0.65mm, IPC High Density)
footprint MS8_M (TSOP, 8-Leads, Body 3x3mm, Pitch 0.65mm, IPC Low Density)
3D model MS8 (8-Pin Thin Small Outline Package 0.65 mm Pitch)
simulation model LTC1542 (SUBCKT)
pins: 1 OUT (hiz), 2 IN- (in), 3 IN+ (in), 4 V- (power), 5 COMP IN+ (in), 6 COMP IN- (in), 7 COMP OUT (out), 8 V+ (power)

## LTC1542CMS8#TR
designator U?
Micropower Operational Amplifier, Comparator and Reference; Note: 1840; Published: 8-Jun-2000; LatestRevisionDate: 29-May-2009; LatestRevisionNote: IPC-7351 Footprint Added.; DatasheetVersion: 1996; PackageVersion: revA, 2000; PackageReference: MS8; Publisher: Altium Limited; PackageDescription: 8-Pin Thin Small Outline Package 0.65 mm Pitch; ComponentLink1Description: Manufacturer Link; ComponentLink1URL: http://www.linear.com/; ComponentLink2Description: Datasheet; ComponentLink2URL: http://www.linear.com/pc/downloadDocument.do?navId=H0,C1,C1154,C1009,C1099,P1238,D2734
footprint MS8_N (TSOP, 8-Leads, Body 3x3mm, Pitch 0.65mm, IPC Medium Density)
footprint MS8_L (TSOP, 8-Leads, Body 3x3mm, Pitch 0.65mm, IPC High Density)
footprint MS8_M (TSOP, 8-Leads, Body 3x3mm, Pitch 0.65mm, IPC Low Density)
3D model MS8 (8-Pin Thin Small Outline Package 0.65 mm Pitch)
simulation model LTC1542 (SUBCKT)
pins: 1 OUT (hiz), 2 IN- (in), 3 IN+ (in), 4 V- (power), 5 COMP IN+ (in), 6 COMP IN- (in), 7 COMP OUT (out), 8 V+ (power)